# EAGLE library part 6N136SDM (library 6N136SDM)
ON Semiconductor, 6N136SDM DC Input Phototransistor Output Optocoupler, Surface Mount, 8-Pin DIP Source: Datasheet <https://componentsearchengine.com/Datasheets/2/6N136SDM.pdf>
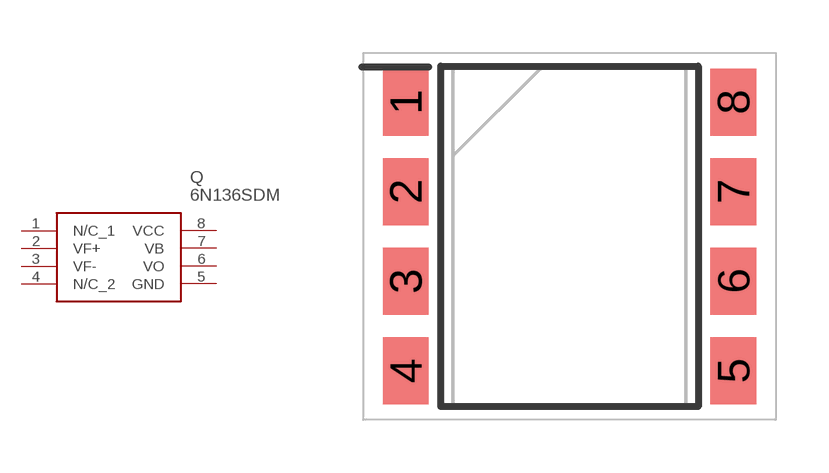
[diagram p0: symbol with the pads of SOP254P1030X508-8N; footprint SOP254P1030X508-8N]

Designator prefix Q

## 6N136SDM (DESCRIPTION: ON Semiconductor, 6N136SDM DC Input Phototransistor Output Optocoupler, Surface Mount, 8-Pin DIP; FARNELL_PART_NUMBER: 2822579RL; FARNELL_PRICE-STOCK: http://uk.farnell.com/jsp/displayProduct.jsp?sku=2822579RL&action=view; HEIGHT: 5.08mm; MANUFACTURER_NAME: ON Semiconductor; MANUFACTURER_PART_NUMBER: 6N136SDM)  [SOP254P1030X508-8N]
1  N/C_1
2  VF+
3  VF-
4  N/C_2
5  GND
6  VO
7  VB
8  VCC

## Footprint SOP254P1030X508-8N (pad centres in mm)
6N136SDM-1
smd 1.3 x 1.9: 1 -4.65,3.81; 2 -4.65,1.27; 3 -4.65,-1.27; 4 -4.65,-3.81; 5 4.65,-3.81; 6 4.65,-1.27; 7 4.65,1.27; 8 4.65,3.81